# EAGLE library part MICROBUILDER_RASBERRYPI_IDC (library AdafruitCobbler)
Rasberry PI IDC Header
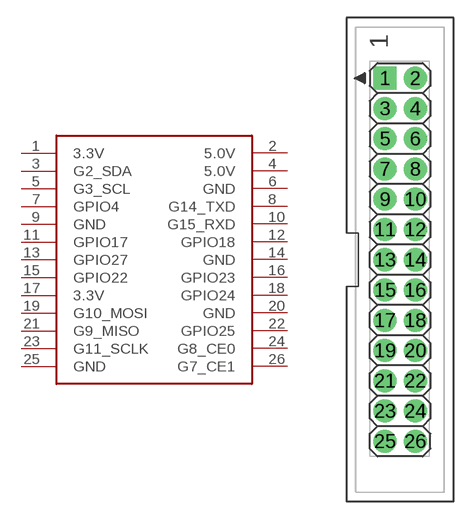
[diagram p1: symbol with the pads of MICROBUILDER_RASBERRYPI_IDC; footprint MICROBUILDER_RASBERRYPI_IDC]

Designator prefix JP

## MICROBUILDER_RASBERRYPI_IDC  [MICROBUILDER_RASBERRYPI_IDC]
1  3.3V  sup
2  5.0V  sup
3  G2_SDA
4  5.0V  sup
5  G3_SCL  out
6  GND  sup
7  GPIO4
8  G14_TXD  out
9  GND  sup
10  G15_RXD  in
11  GPIO17
12  GPIO18
13  GPIO27
14  GND  sup
15  GPIO22
16  GPIO23
17  3.3V  sup
18  GPIO24
19  G10_MOSI  out
20  GND  sup
21  G9_MISO  in
22  GPIO25
23  G11_SCLK  out
24  G8_CE0  out
25  GND  sup
26  G7_CE1  out

## Footprint MICROBUILDER_RASBERRYPI_IDC (pad centres in mm)
drill 1 pad 1.93 square: 1 -1.27,15.24
drill 1 pad 1.93: 2 1.27,15.24; 3 -1.27,12.7; 4 1.27,12.7; 5 -1.27,10.16; 6 1.27,10.16; 7 -1.27,7.62; 8 1.27,7.62; 9 -1.27,5.08; 10 1.27,5.08; 11 -1.27,2.54; 12 1.27,2.54; 13 -1.27,0; 14 1.27,0; 15 -1.27,-2.54; 16 1.27,-2.54; 17 -1.27,-5.08; 18 1.27,-5.08; 19 -1.27,-7.62; 20 1.27,-7.62; 21 -1.27,-10.16; 22 1.27,-10.16; 23 -1.27,-12.7; 24 1.27,-12.7; 25 -1.27,-15.24; 26 1.27,-15.24